# EAGLE library part SIM900 (library GSM)
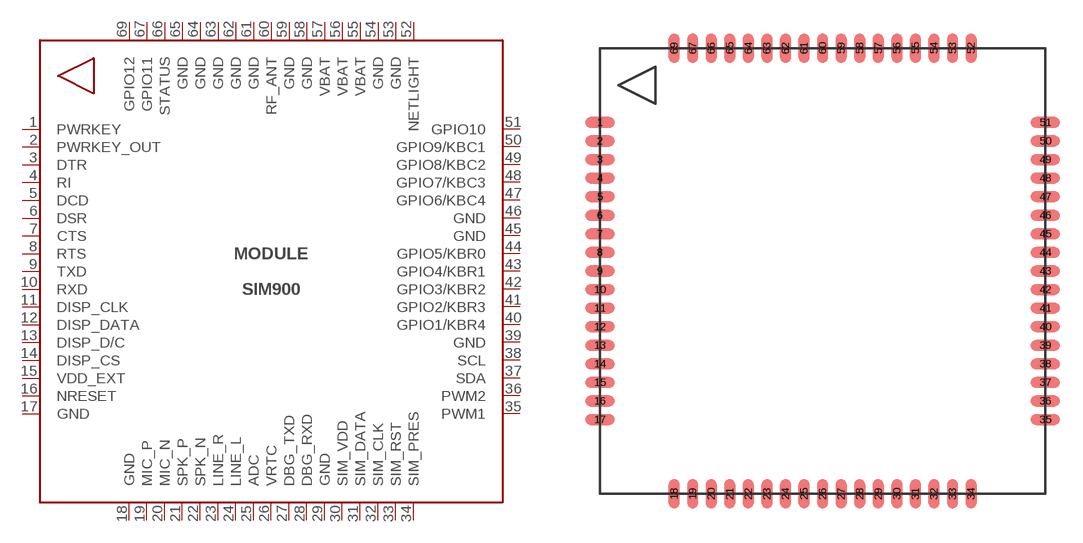
[diagram p0: symbol with the pads of SIM900_SIM800F; footprint SIM900_SIM800F]

Designator prefix MODULE

## SIM900  [SIM900_SIM800F]
1  PWRKEY
2  PWRKEY_OUT
3  DTR
4  RI
5  DCD
6  DSR
7  CTS
8  RTS
9  TXD
10  RXD
11  DISP_CLK
12  DISP_DATA
13  DISP_D/C
14  DISP_CS
15  VDD_EXT
16  NRESET
17  GND
18  GND
19  MIC_P
20  MIC_N
21  SPK_P
22  SPK_N
23  LINE_R
24  LINE_L
25  ADC
26  VRTC
27  DBG_TXD
28  DBG_RXD
29  GND
30  SIM_VDD
31  SIM_DATA
32  SIM_CLK
33  SIM_RST
34  SIM_PRES
35  PWM1
36  PWM2
37  SDA
38  SCL
39  GND
40  GPIO1/KBR4
41  GPIO2/KBR3
42  GPIO3/KBR2
43  GPIO4/KBR1
44  GPIO5/KBR0
45  GND
46  GND
47  GPIO6/KBC4
48  GPIO7/KBC3
49  GPIO8/KBC2
50  GPIO9/KBC1
51  GPIO10
52  NETLIGHT
53  GND
54  GND
55  VBAT
56  VBAT
57  VBAT
58  GND
59  GND
60  RF_ANT
61  GND
62  GND
63  GND
64  GND
65  GND
66  STATUS
67  GPIO11
69  GPIO12

## Footprint SIM900_SIM800F (pad centres in mm)
smd 1.6 x 0.6: 1 -12,8; 2 -12,7; 3 -12,6; 4 -12,5; 5 -12,4; 6 -12,3; 7 -12,2; 8 -12,1; 9 -12,0; 10 -12,-1; 11 -12,-2; 12 -12,-3; 13 -12,-4; 14 -12,-5; 15 -12,-6; 16 -12,-7; 17 -12,-8; 35 12,-8; 36 12,-7; 37 12,-6; 38 12,-5; 39 12,-4; 40 12,-3; 41 12,-2; 42 12,-1; 43 12,0; 44 12,1; 45 12,2; 46 12,3; 47 12,4; 48 12,5; 49 12,6; 50 12,7; 51 12,8
smd 0.6 x 1.6: 18 -8,-12; 19 -7,-12; 20 -6,-12; 21 -5,-12; 22 -4,-12; 23 -3,-12; 24 -2,-12; 25 -1,-12; 26 0,-12; 27 1,-12; 28 2,-12; 29 3,-12; 30 4,-12; 31 5,-12; 32 6,-12; 33 7,-12; 34 8,-12; 52 8,12; 53 7,12; 54 6,12; 55 5,12; 56 4,12; 57 3,12; 58 2,12; 59 1,12; 60 0,12; 61 -1,12; 62 -2,12; 63 -3,12; 64 -4,12; 65 -5,12; 66 -6,12; 67 -7,12; 69 -8,12